# EAGLE library part M155 (library dec-m)
4 Line to 16 Line Decoder
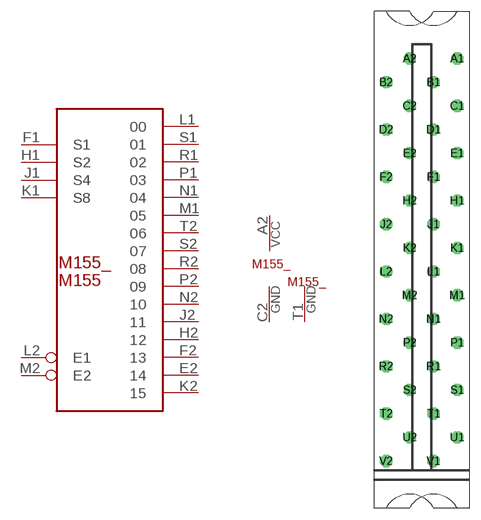
[diagram p117: symbol with the pads of H807; footprint H807]

Designator prefix M155_; gates G$4=POWER G$5=T1GND G$1=M155

## M155  [H807]
A2  G$4:VCC  pwr
C2  G$4:GND  pwr
E2  G$1:14  out
F1  G$1:S1  in
F2  G$1:13  out
H1  G$1:S2  in
H2  G$1:12  out
J1  G$1:S4  in
J2  G$1:11  out
K1  G$1:S8  in
K2  G$1:15  out
L1  G$1:00  out
L2  G$1:E1  in
M1  G$1:05  out
M2  G$1:E2  in
N1  G$1:04  out
N2  G$1:10  out
P1  G$1:03  out
P2  G$1:09  out
R1  G$1:02  out
R2  G$1:08  out
S1  G$1:01  out
S2  G$1:07  out
T1  G$5:GND  pwr
T2  G$1:06  out

## Footprint H807 (pad centres in mm)
One-wide female edge connector
drill 1.092 octagon: A1 4.763,28.575; A2 -1.587,28.575; B1 1.587,25.4; B2 -4.763,25.4; C1 4.763,22.225; C2 -1.587,22.225; D1 1.587,19.05; D2 -4.763,19.05; E1 4.763,15.875; E2 -1.587,15.875; F1 1.587,12.7; F2 -4.763,12.7; H1 4.763,9.525; H2 -1.587,9.525; J1 1.587,6.35; J2 -4.763,6.35; K1 4.763,3.175; K2 -1.587,3.175; L1 1.587,0; L2 -4.763,0; M1 4.763,-3.175; M2 -1.587,-3.175; N1 1.587,-6.35; N2 -4.763,-6.35; P1 4.763,-9.525; P2 -1.587,-9.525; R1 1.587,-12.7; R2 -4.763,-12.7; S1 4.763,-15.875; S2 -1.587,-15.875; T1 1.587,-19.05; T2 -4.763,-19.05; U1 4.763,-22.225; U2 -1.587,-22.225; V1 1.587,-25.4; V2 -4.763,-25.4